# Altium footprint library ICs_Regulators.PcbLib: 3 footprints
Each footprint in its own frame and in the unit in brackets; x right, y up, seen from the top. Pads: shape width x height; smd on the part's side, far side on the other; paste and mask are expansions set on the pad; w line width, h text height; cw(c..) or ccw(c..) is an arc to the next point about the centre after c.
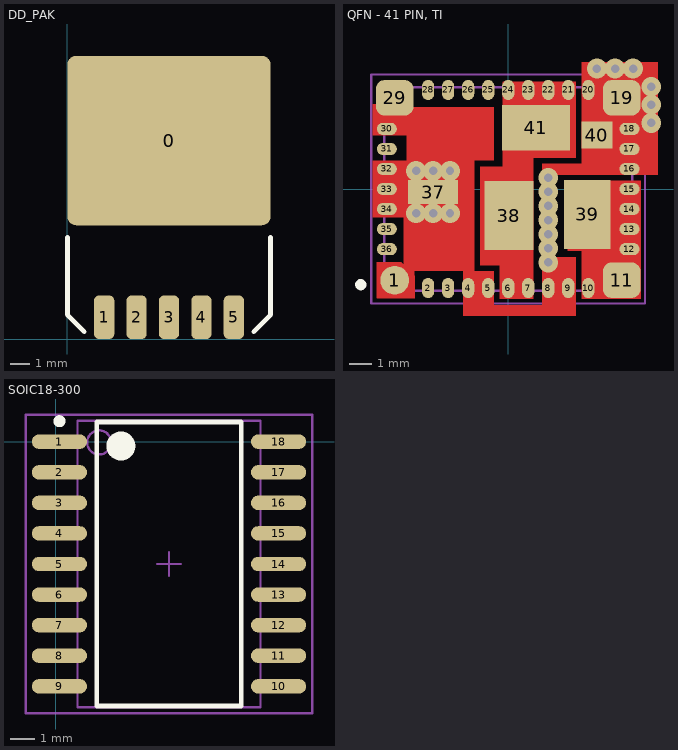
[diagram p0: the footprints below, top view; thin cyan lines are the x and y axes]

## DD_PAK [mil]
pads (6):
  rrect10% 420x350 smd mask+7: 0(210,410)
  rrect50% 42x90 smd mask+7: 1(76,45) 2(143,45) 3(210,45) 4(277,45) 5(344,45)
Top Overlay:
  lines w10: 0,210 0,50 35,15 ; 385,15 420,50 420,210
3D body: height 176.56, standoff 0, extent 8.75,25 411.25,590

## QFN - 41 PIN, TI [mm] "QFN, 32-Leads, Body 9.1x11.1mm (max), Pitch 0.90mm, IPC Medium Density"
height 2.9
pads (41):
  round 1.3 smd mask+0.07: 1(-5.1,-4.1)
  oval 0.55x0.9 smd mask+0.07: 2(-3.6,-4.45) 3(-2.7,-4.45) 4(-1.8,-4.45) 5(-0.9,-4.45) 6(0,-4.45) 7(0.9,-4.45) 8(1.8,-4.45) 9(2.7,-4.45) 10(3.6,-4.45) 20(3.6,4.45) 21(2.7,4.45) 22(1.8,4.45) 23(0.9,4.45) 24(0,4.45) 25(-0.9,4.45) 26(-1.8,4.45) 27(-2.7,4.45) 28(-3.6,4.45)
  rrect50% 1.7x1.6 smd mask+0.07: 11(5.1,-4.1) 19(5.1,4.1) 29(-5.1,4.1)
  oval 0.9x0.55 smd mask+0.07: 12(5.45,-2.7) 13(5.45,-1.8) 14(5.45,-0.9) 15(5.45,0) 16(5.45,0.9) 17(5.45,1.8) 18(5.45,2.7) 30(-5.45,2.7) 31(-5.45,1.8) 32(-5.45,0.9) 33(-5.45,0) 34(-5.45,-0.9) 35(-5.45,-1.8) 36(-5.45,-2.7)
  rect 2.25x1.1 smd mask+0.07: 37(-3.375,-0.135)
  rect 2.2x3.1 smd mask+0.07: 38(0.035,-1.195)
  rect 2.083x3.1 smd mask+0: 39(3.556,-1.143)
  rect 1.4x1.219 smd mask+0.025: 40(3.985,2.425)
  rect 3.05x2.04 smd mask+0: 41(1.245,2.745)
via -4.14,0.813 diameter 0.889 hole 0.381
via -3.378,0.813 diameter 0.889 hole 0.381
via -2.616,0.813 diameter 0.889 hole 0.381
via -4.14,-1.092 diameter 0.889 hole 0.381
via -3.378,-1.092 diameter 0.889 hole 0.381
via -2.616,-1.092 diameter 0.889 hole 0.381
via 1.8,0.508 diameter 0.889 hole 0.381
via 1.8,-0.127 diameter 0.889 hole 0.381
via 1.8,-0.762 diameter 0.889 hole 0.381
via 1.8,-1.397 diameter 0.889 hole 0.381
via 1.8,-2.032 diameter 0.889 hole 0.381
via 1.8,-3.302 diameter 0.889 hole 0.381
via 1.8,-2.667 diameter 0.889 hole 0.381
via 3.988,5.41 diameter 0.889 hole 0.381
via 4.801,5.41 diameter 0.889 hole 0.381
via 5.613,5.41 diameter 0.889 hole 0.381
via 6.426,4.597 diameter 0.889 hole 0.381
via 6.426,3.785 diameter 0.889 hole 0.381
via 6.426,2.972 diameter 0.889 hole 0.381
Top Layer:
  rectangle: -4.699,-3.9 -4.2,-3.683
  rectangle: -2.032,-4.953 -0.635,-3.683
  rectangle: -4.699,-3.683 -1.524,-1.27
  rectangle: -6.096,-1.27 -1.524,1.27
  rectangle: -4.572,1.27 -0.635,3.683
  rectangle: 3.302,-4.953 5.969,-2.794
  rectangle: 2.667,-2.794 5.969,0.381
  rectangle: 1.524,-4.953 3.048,-3.048
  rectangle: 2.032,0.635 4.953,1.143
  rectangle: 1.524,-3.048 2.032,1.143
  rectangle: 3.302,0.635 6.731,5.715
  rectangle: -0.381,-4.953 1.143,-3.429
  rectangle: -0.254,1.016 1.143,2.413
  rectangle: -1.27,-3.429 1.143,1.016
  rectangle: -0.254,1.397 3.048,4.826
  rectangle: -2.032,-5.715 3.048,-5.207
  rectangle: -2.032,-5.334 -0.635,-4.953
  rectangle: 1.524,-5.334 3.048,-4.953
  rectangle: -6.096,2.413 -4.572,3.81
  region: -5.9,-4.9 -4.2,-4.9 -4.2,-3.9 -4.8,-3.3 -5.9,-3.3
Top Overlay:
  circle w0.25: c-6.625,-4.3 r0.125
Mechanical 13:
  circle w0.1: c-3.9,-2.9 r0.5
  lines w0.1: -5.575,-4.575 -5.575,4.575 5.575,4.575 5.575,-4.575 -5.575,-4.575
Mechanical 15:
  lines w0.1: -0.5,0 0.5,0 ; 0,-0.5 0,0.5 ; -6.15,-5.15 -6.15,5.15 6.15,5.15 6.15,-5.15 -6.15,-5.15
3D body: height 2.9, standoff 0, extent -5.588,-4.572 5.588,4.572

## SOIC18-300 [mm]
pads (18):
  oval 2.3x0.6 smd: 1(0.149,0) 2(0.149,-1.27) 3(0.149,-2.54) 4(0.149,-3.81) 5(0.149,-5.08) 6(0.149,-6.35) 7(0.149,-7.62) 8(0.149,-8.89) 9(0.149,-10.16) 10(9.249,-10.16) 11(9.249,-8.89) 12(9.249,-7.62) 13(9.249,-6.35) 14(9.249,-5.08) 15(9.249,-3.81) 16(9.249,-2.54) 17(9.249,-1.27) 18(9.249,0)
Top Overlay:
  circle w0.25: c0.149,0.85 r0.125
  circle w0.6: c2.699,-0.18 r0.3
  lines w0.2: 1.699,-10.98 1.699,0.82 7.699,0.82 7.699,-10.98 1.699,-10.98
Mechanical 13:
  circle w0.1: c1.799,-0.03 r0.5
  lines w0.1: 0.899,-11.03 0.899,0.87 8.499,0.87 8.499,-11.03 0.899,-11.03
Mechanical 15:
  lines w0.1: 4.199,-5.08 5.199,-5.08 ; 4.699,-5.58 4.699,-4.58 ; -1.251,-11.28 -1.251,1.12 10.649,1.12 10.649,-11.28 -1.251,-11.28
3D body: height 2.65, standoff 0, extent -0.451,-10.795 9.849,0.735